# Altium footprint library WR-NTYPE.PcbLib: 4 footprints
Each footprint in its own frame and in the unit in brackets; x right, y up, seen from the top. Pads: shape width x height; smd on the part's side, far side on the other; paste and mask are expansions set on the pad; w line width, h text height; cw(c..) or ccw(c..) is an arc to the next point about the centre after c.
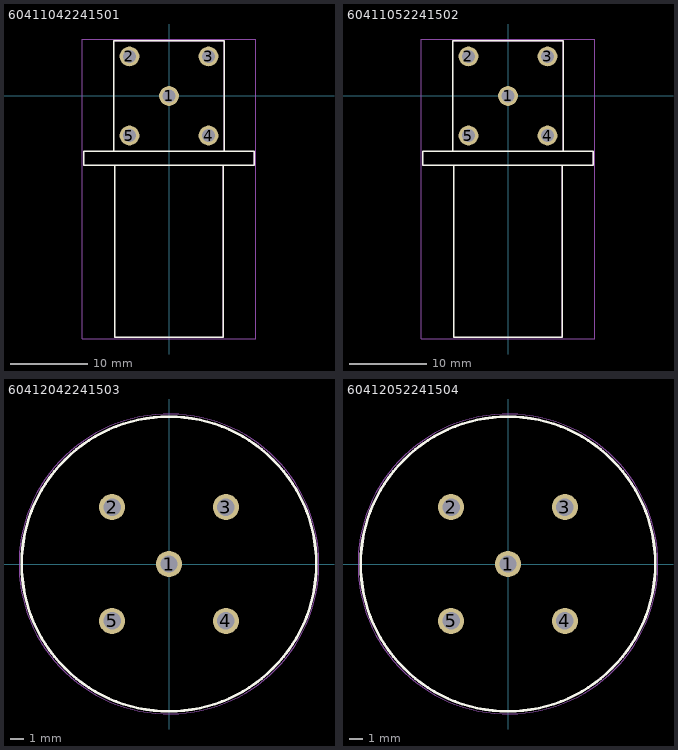
[diagram p0: the footprints below, top view; thin cyan lines are the x and y axes]

## 60411042241501 [mm] "N Type PCB THT Jack"
height 21.6
pads (5):
  round 2.55 hole 1.7: 1(0,0) 2(-5.1,5.1) 3(5.1,5.1) 4(5.1,-5.1) 5(-5.1,-5.1)
Top Overlay:
  lines w0.2: -7.15,-7.15 -7.15,7.15 7.15,7.15 7.15,-7.15 ; -7,-8.95 -7,-31.15 7,-31.15 7,-8.95 ; -11,-8.95 -11,-7.15 11,-7.15 11,-8.95 -11,-8.95
Top Designator:
  text ".Designator" at -7.498,-0.5 h1.5
Top Component Outline:
  lines w0.1: -7.15,-7.15 -7.15,7.15 7.15,7.15 7.15,-7.15 ; -7,-8.95 -7,-31.15 7,-31.15 7,-8.95 ; -11,-8.95 -11,-7.15 11,-7.15 11,-8.95 -11,-8.95
Top Courtyard:
  lines w0.05: -0.5,0 0.5,0 ; 0,-0.5 0,0.5 ; -11.2,-31.35 11.2,-31.35 11.2,7.35 -11.2,7.35 -11.2,-31.35
3D body "60411042241501.stp": height 24.5, standoff -3.1, extent -11,-31.15 11,7.15

## 60411052241502 [mm] "N Type PCB THT Jack"
height 21.6
pads (5):
  round 2.55 hole 1.7: 1(0,0) 2(-5.1,5.1) 3(5.1,5.1) 4(5.1,-5.1) 5(-5.1,-5.1)
Top Overlay:
  lines w0.2: -7.15,-7.15 -7.15,7.15 7.15,7.15 7.15,-7.15 ; -7,-8.95 -7,-31.15 7,-31.15 7,-8.95 ; -11,-8.95 11,-8.95 11,-7.15 -11,-7.15 -11,-8.95
Top Designator:
  text ".Designator" at -7.498,-0.5 h1.5
Top Component Outline:
  lines w0.1: -7.15,-7.15 -7.15,7.15 7.15,7.15 7.15,-7.15 ; -7,-8.95 -7,-31.15 7,-31.15 7,-8.95 ; -11,-8.95 11,-8.95 11,-7.15 -11,-7.15 -11,-8.95
Top Courtyard:
  lines w0.05: -0.5,0 0.5,0 ; 0,-0.5 0,0.5 ; -11.2,-31.35 -11.2,7.35 11.2,7.35 11.2,-31.35 -11.2,-31.35
3D body "60411052241502.stp": height 24.5, standoff -3.1, extent -11,-31.15 11,7.15

## 60412042241503 [mm] "N Type PCB THT Jack"
height 26.8
pads (5):
  round 1.95 hole 1.3: 1(0,0) 2(-4.25,4.25) 3(4.25,4.25) 4(4.25,-4.25) 5(-4.25,-4.25)
Top Overlay:
  circle w0.2: c0,0 r11
Top Designator:
  text ".Designator" at -7.498,-0.5 h1.5
Top Component Outline:
  circle w0.1: c0,0 r11
Top Courtyard:
  circle w0.05: c0,0 r11.2
  lines w0.05: -0.5,0 0.5,0 ; 0,-0.5 0,0.5
3D body "60412042241503.stp": height 26.9, standoff -3.1, extent -11,-11 11,11

## 60412052241504 [mm] "N Type PCB THT Jack"
height 26.8
pads (5):
  round 1.95 hole 1.3: 1(0,0) 2(-4.25,4.25) 3(4.25,4.25) 4(4.25,-4.25) 5(-4.25,-4.25)
Top Overlay:
  circle w0.2: c0,0 r11
Top Designator:
  text ".Designator" at -7.498,-0.5 h1.5
Top Component Outline:
  circle w0.1: c0,0 r11
Top Courtyard:
  circle w0.05: c0,0 r11.2
  lines w0.05: -0.5,0 0.5,0 ; 0,-0.5 0,0.5
3D body "60412052241504.stp": height 26.9, standoff -3.1, extent -11,-11 11,11